# EAGLE library part FAN7888 (library FAN7888)
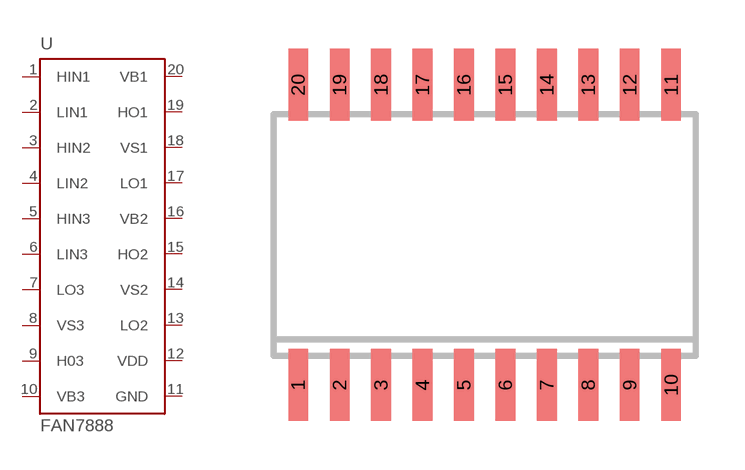
[diagram p0: symbol with the pads of SOIC-20; footprint SOIC-20]

Designator prefix -

## FAN7888  [SOIC-20]
1  HIN1  in
2  LIN1  in
3  HIN2  in
4  LIN2  in
5  HIN3  in
6  LIN3  in
7  LO3  out
8  VS3  pwr
9  H03  out
10  VB3  pwr
11  GND  pas
12  VDD  pwr
13  LO2  out
14  VS2  pwr
15  HO2  out
16  VB2  pwr
17  LO1  out
18  VS1  pwr
19  HO1  out
20  VB1  pwr

## Footprint SOIC-20 (pad centres in mm)
smd 0.6 x 2.2: 1 -5.715,-4.6; 2 -4.445,-4.6; 3 -3.175,-4.6; 4 -1.905,-4.6; 5 -0.635,-4.6; 6 0.635,-4.6; 7 1.905,-4.6; 8 3.175,-4.6; 9 4.445,-4.6; 10 5.715,-4.6; 11 5.715,4.6; 12 4.445,4.6; 13 3.175,4.6; 14 1.905,4.6; 15 0.635,4.6; 16 -0.635,4.6; 17 -1.905,4.6; 18 -3.175,4.6; 19 -4.445,4.6; 20 -5.715,4.6